# Altium integrated library TI Microcontroller MSP430 16-bit Ultra-Low Power.IntLib: 1463 symbols (part 9 of 130)
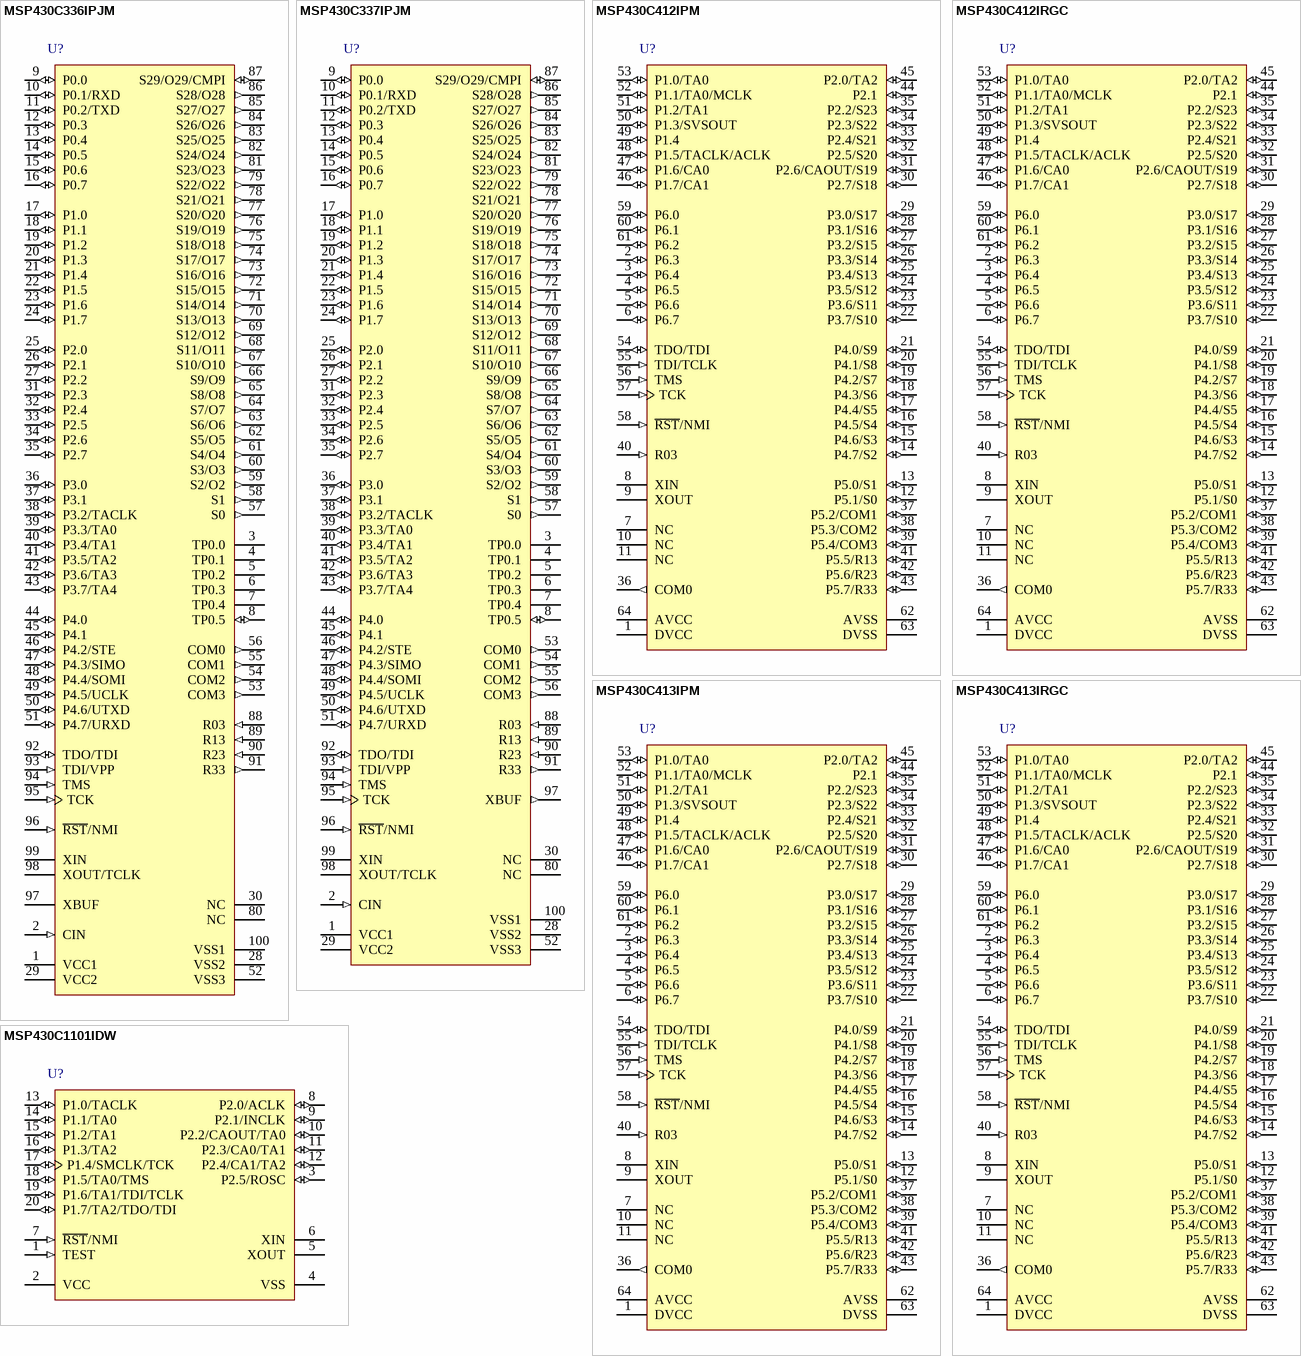
[diagram p241: symbols MSP430C336IPJM to MSP430C1101IDW]

## MSP430C336IPJM
designator U?
3.8 MHz Mixed Signal Microcontroller with 24 KB Flash, 1024 B SRAM, -40 to 85 degC, 100-pin QFP (PJM); Manufacturer: Texas Instruments; PartNumber: MSP430C336IPJM; DatasheetVersion: SLAS227A; PackageVersion: 4040022/B; PackageReference: PJM100; PackageDescription: 100-Pin Plastic Flat Pack, Body 14 x 20 mm, Pitch 0.65 mm; Supplier 1: Mouser; Supplier Part Number 1: N/A; Mounting Technology: Surface Mount; Code_JEDEC: MS-022; ComponentLink1Description: Manufacturer URL; ComponentLink1URL: http://www.ti.com/; ComponentLink2Description: Datasheet; ComponentLink2URL: http://www.ti.com/general/docs/lit/getliterature.tsp?genericPartNumber=MSP430C336&fileType=pdf; ComponentLink3Description: Package Specification; ComponentLink3URL: http://www.ti.com/lit/ds/symlink/msp430c337.pdf
footprint TI-PJM100_N (QFP, 100-Leads, Body 20x14mm, Pitch 0.65mm, IPC Medium Density)
pins: 1 VCC1 (power) "Positive supply voltage", 2 CIN (in) "Input port. CIN is used as an enable for counter TPCNT1 - (Timer/Port).", 3 TP0.0 (hiz) "General-purpose 3-state digital output port, bit 0 - Timer/Port", 4 TP0.1 (hiz) "General-purpose 3-state digital output port, bit 1 - Timer/Port", 5 TP0.2 (hiz) "General-purpose 3-state digital output port, bit 2 - Timer/Port", 6 TP0.3 (hiz) "General-purpose 3-state digital output port, bit 3 - Timer/Port", 7 TP0.4 (hiz) "General-purpose 3-state digital output port, bit 4 - Timer/Port", 8 TP0.5 (io) "General-purpose 3-state digital input/output port, bit 5 - Timer/Port", 9 P0.0 (io) "General-purpose digital I/O", 10 P0.1/RXD (io), 11 P0.2/TXD (io), 12 P0.3 (io) "General-purpose digital I/O, bit 3", 13 P0.4 (io) "General-purpose digital I/O, bit 4", 14 P0.5 (io) "General-purpose digital I/O, bit 5", 15 P0.6 (io) "General-purpose digital I/O, bit 6", 16 P0.7 (io) "General-purpose digital I/O, bit 7", 17 P1.0 (io) "General-purpose digital I/O, bit 0", 18 P1.1 (io) "General-purpose digital I/O, bit 1", 19 P1.2 (io) "General-purpose digital I/O, bit 2", 20 P1.3 (io) "General-purpose digital I/O, bit 3", 21 P1.4 (io) "General-purpose digital I/O, bit 4", 22 P1.5 (io) "General-purpose digital I/O, bit 5", 23 P1.6 (io) "General-purpose digital I/O, bit 6", 24 P1.7 (io) "General-purpose digital I/O, bit 7", 25 P2.0 (io) "General-purpose digital I/O, bit 0", 26 P2.1 (io) "General-purpose digital I/O, bit 1", 27 P2.2 (io) "General-purpose digital I/O, bit 2", 28 VSS2 (power) "Ground reference", 29 VCC2 (power) "Positive supply voltage", 30 NC "No internal connection", 31 P2.3 (io) "General-purpose digital I/O, bit 3", 32 P2.4 (io) "General-purpose digital I/O, bit 4", 33 P2.5 (io) "General-purpose digital I/O, bit 5", 34 P2.6 (io) "General-purpose digital I/O, bit 6", 35 P2.7 (io) "General-purpose digital I/O, bit 7", 36 P3.0 (io) "General-purpose digital I/O, bit 0", 37 P3.1 (io) "General-purpose digital I/O, bit 1", 38 P3.2/TACLK (io), 39 P3.3/TA0 (io), 40 P3.4/TA1 (io), 41 P3.5/TA2 (io), 42 P3.6/TA3 (io), 43 P3.7/TA4 (io), 44 P4.0 (io) "General-purpose digital I/O, bit 0", 45 P4.1 (io) "General-purpose digital I/O, bit 1", 46 P4.2/STE (io), 47 P4.3/SIMO (io), 48 P4.4/SOMI (io), 49 P4.5/UCLK (io), 50 P4.6/UTXD (io), 51 P4.7/URXD (io), 52 VSS3 (power) "Ground reference", 53 COM3 (out) "Common output. COM3 are used for LCD backplanes - LCD", 54 COM2 (out) "Common output. COM2 are used for LCD backplanes - LCD", 55 COM1 (out) "Common output. COM1 are used for LCD backplanes - LCD", 56 COM0 (out) "Common output. COM0 are used for LCD backplanes - LCD", 57 S0 (out) "Segment line S0 - LCD", 58 S1 (out) "Segment line S1 - LCD", 59 S2/O2 (out), 60 S3/O3 (out), 61 S4/O4 (out), 62 S5/O5 (out), 63 S6/O6 (out), 64 S7/O7 (out), 65 S8/O8 (out), 66 S9/O9 (out), 67 S10/O10 (out), 68 S11/O11 (out), 69 S12/O12 (out), 70 S13/O13 (out), 71 S14/O14 (out), 72 S15/O15 (out), 73 S16/O16 (out), 74 S17/O17 (out), 75 S18/O18 (out), 76 S19/O19 (out), 77 S20/O20 (out), 78 S21/O21 (out), 79 S22/O22 (out), 80 NC "No internal connection", 81 S23/O23 (out), 82 S24/O24 (out), 83 S25/O25 (out), 84 S26/O26 (out), 85 S27/O27 (out), 86 S28/O28 (out), 87 S29/O29/CMPI (io), 88 R03 (in) "Input port of fourth positive (lowest) analog LCD level (V5) - LCD", 89 R13 (in) "Input port of third most positive analog LCD level (V3 of V4) - LCD", 90 R23 (in) "Input port of second most positive analog LCD level (V2) - LCD", 91 R33 (out) "Output of most positive analog LCD level (V1) - LCD", 92 TDO/TDI (io), 93 TDI/VPP (in), 94 TMS (in) "Test mode select. TMS is used as an input port for device programming and test.", 95 TCK (in) "Test clock. TCK is the clock input port for device programming and test.", 96 ~{RST}/NMI (in), 97 XBUF "System clock (MCLK) or crystal clock (ACLK) output", 98 XOUT/TCLK, 99 XIN "Input port for crystal oscillator", 100 VSS1 (power) "Ground reference"

## MSP430C337IPJM
designator U?
3.8 MHz Mixed Signal Microcontroller with 32 KB Flash, 1024 B SRAM, -40 to 85 degC, 100-pin QFP (PJM); Manufacturer: Texas Instruments; PartNumber: MSP430C337IPJM; DatasheetVersion: SLAS227A; PackageVersion: 4040022/B; PackageReference: PJM100; PackageDescription: 100-Pin Plastic Flat Pack, Body 14 x 20 mm, Pitch 0.65 mm; Supplier 1: Mouser; Supplier Part Number 1: N/A; Mounting Technology: Surface Mount; Code_JEDEC: MS-022; ComponentLink1Description: Manufacturer URL; ComponentLink1URL: http://www.ti.com/; ComponentLink2Description: Datasheet; ComponentLink2URL: http://www.ti.com/general/docs/lit/getliterature.tsp?genericPartNumber=MSP430C337&fileType=pdf; ComponentLink3Description: Package Specification; ComponentLink3URL: http://www.ti.com/lit/ds/symlink/msp430c337.pdf
footprint TI-PJM100_N (QFP, 100-Leads, Body 20x14mm, Pitch 0.65mm, IPC Medium Density)
pins: 1 VCC1 (power) "Positive supply voltage", 2 CIN (in) "Input port. CIN is used as an enable for counter TPCNT1 - (Timer/Port).", 3 TP0.0 (hiz) "General-purpose 3-state digital output port, bit 0 - Timer/Port", 4 TP0.1 (hiz) "General-purpose 3-state digital output port, bit 1 - Timer/Port", 5 TP0.2 (hiz) "General-purpose 3-state digital output port, bit 2 - Timer/Port", 6 TP0.3 (hiz) "General-purpose 3-state digital output port, bit 3 - Timer/Port", 7 TP0.4 (hiz) "General-purpose 3-state digital output port, bit 4 - Timer/Port", 8 TP0.5 (io) "General-purpose 3-state digital input/output port, bit 5 - Timer/Port", 9 P0.0 (io) "General-purpose digital I/O", 10 P0.1/RXD (io), 11 P0.2/TXD (io), 12 P0.3 (io) "Five general-purpose digital I/Os, bit 3-7", 13 P0.4 (io) "Five general-purpose digital I/Os, bit 3-7", 14 P0.5 (io) "Five general-purpose digital I/Os, bit 3-7", 15 P0.6 (io) "Five general-purpose digital I/Os, bit 3-7", 16 P0.7 (io) "Five general-purpose digital I/Os, bit 3-7", 17 P1.0 (io) "Eight general-purpose digital I/Os, bit 0-7", 18 P1.1 (io) "Eight general-purpose digital I/Os, bit 0-7", 19 P1.2 (io) "Eight general-purpose digital I/Os, bit 0-7", 20 P1.3 (io) "Eight general-purpose digital I/Os, bit 0-7", 21 P1.4 (io) "Eight general-purpose digital I/Os, bit 0-7", 22 P1.5 (io) "Eight general-purpose digital I/Os, bit 0-7", 23 P1.6 (io) "Eight general-purpose digital I/Os, bit 0-7", 24 P1.7 (io) "Eight general-purpose digital I/Os, bit 0-7", 25 P2.0 (io) "Eight general-purpose digital I/Os, bit 0-7", 26 P2.1 (io) "Eight general-purpose digital I/Os, bit 0-7", 27 P2.2 (io) "Eight general-purpose digital I/Os, bit 0-7", 28 VSS2 (power) "Ground reference", 29 VCC2 (power) "Positive supply voltage", 30 NC "No connect", 31 P2.3 (io) "Eight general-purpose digital I/Os, bit 0-7", 32 P2.4 (io) "Eight general-purpose digital I/Os, bit 0-7", 33 P2.5 (io) "Eight general-purpose digital I/Os, bit 0-7", 34 P2.6 (io) "Eight general-purpose digital I/Os, bit 0-7", 35 P2.7 (io) "Eight general-purpose digital I/Os, bit 0-7", 36 P3.0 (io) "Two general-purpose digital I/Os, bit 0 and bit 1", 37 P3.1 (io) "Two general-purpose digital I/Os, bit 0 and bit 1", 38 P3.2/TACLK (io), 39 P3.3/TA0 (io), 40 P3.4/TA1 (io), 41 P3.5/TA2 (io), 42 P3.6/TA3 (io), 43 P3.7/TA4 (io), 44 P4.0 (io) "General-purpose digital I/O, bit 0", 45 P4.1 (io) "General-purpose digital I/O, bit 1", 46 P4.2/STE (io), 47 P4.3/SIMO (io), 48 P4.4/SOMI (io), 49 P4.5/UCLK (io), 50 P4.6/UTXD (io), 51 P4.7/URXD (io), 52 VSS3 (power) "Ground reference", 53 COM0 (out) "Common outputs. COM0-3 are used for LCD backplanes - LCD", 54 COM1 (out) "Common outputs. COM0-3 are used for LCD backplanes - LCD", 55 COM2 (out) "Common outputs. COM0-3 are used for LCD backplanes - LCD", 56 COM3 (out) "Common outputs. COM0-3 are used for LCD backplanes - LCD", 57 S0 (out) "Segment line S0 - LCD", 58 S1 (out) "Segment line S1 - LCD", 59 S2/O2 (out), 60 S3/O3 (out), 61 S4/O4 (out), 62 S5/O5 (out), 63 S6/O6 (out), 64 S7/O7 (out), 65 S8/O8 (out), 66 S9/O9 (out), 67 S10/O10 (out), 68 S11/O11 (out), 69 S12/O12 (out), 70 S13/O13 (out), 71 S14/O14 (out), 72 S15/O15 (out), 73 S16/O16 (out), 74 S17/O17 (out), 75 S18/O18 (out), 76 S19/O19 (out), 77 S20/O20 (out), 78 S21/O21 (out), 79 S22/O22 (out), 80 NC "Not connect", 81 S23/O23 (out), 82 S24/O24 (out), 83 S25/O25 (out), 84 S26/O26 (out), 85 S27/O27 (out), 86 S28/O28 (out), 87 S29/O29/CMPI (io), 88 R03 (in) "Input port of fourth positive (lowest) analog LCD level (V5) - LCD", 89 R13 (in) "Input port of third most positive analog LCD level (V3 of V4) - LCD", 90 R23 (in) "Input port of third most positive analog LCD level (V3 of V4) - LCD", 91 R33 (out) "Output of most positive analog LCD level (V1) - LCD", 92 TDO/TDI (io), 93 TDI/VPP (in), 94 TMS (in) "Test mode select. TMS is used as an input port for device programming and test.", 95 TCK (in) "Test clock. TCK is the clock input port for device programming and test.", 96 ~{RST}/NMI (in), 97 XBUF (out) "System clock (MCLK) or crystal clock (ACLK) output", 98 XOUT/TCLK, 99 XIN "Input port for crystal oscillator", 100 VSS1 (power) "Ground reference"

## MSP430C412IPM
designator U?
8 MHz Mixed Signal Microcontroller with 4 KB Flash, 256 B SRAM and 48 GPIOs, -40 to 85 degC, 64-pin QFP (PM); Manufacturer: Texas Instruments; PartNumber: MSP430C412IPM; ADC: Slope; Frequency(MHz): 8; GPIO: 48; LCD Segments: 96; SRAM(B): 256; SubFamily: 4 Series with LCD; DatasheetVersion: SLAS340J; PackageVersion: 4040152/C; PackageReference: PM64; PackageDescription: 64-Pin Plastic Quad Flat Pack, Body 10 x 10 mm, Pitch 0.5 mm; Supplier 1: Mouser; Supplier Part Number 1: N/A; Mounting Technology: Surface Mount; Code_JEDEC: MS-026; ComponentLink1Description: Manufacturer URL; ComponentLink1URL: http://www.ti.com/; ComponentLink2Description: Datasheet; ComponentLink2URL: http://www.ti.com/general/docs/lit/getliterature.tsp?genericPartNumber=MSP430C412&fileType=pdf; ComponentLink3Description: Package Specification; ComponentLink3URL: http://www.ti.com/lit/ml/mtqf008a/mtqf008a.pdf
footprint TI-PM64_N (QFP, 64-Leads, Body 10x10mm, Pitch 0.5mm, IPC Medium Density)
pins: 1 DVCC (power) "Digital supply voltage, positive terminal. Supplies all parts, except those which are supplied via AVCC.", 2 P6.3 (io) "General-purpose digital I/O", 3 P6.4 (io) "General-purpose digital I/O", 4 P6.5 (io) "General-purpose digital I/O", 5 P6.6 (io) "General-purpose digital I/O", 6 P6.7 (io) "General-purpose digital I/O", 7 NC "Not internally connected. Connection to VSS recommended.", 8 XIN "Input port for crystal oscillator XT1. Standard or watch crystals can be connected.", 9 XOUT "Output terminal of crystal oscillator XT1.", 10 NC "Not internally connected. Connection to VSS recommended.", 11 NC "Not internally connected. Connection to VSS recommended.", 12 P5.1/S0 (io), 13 P5.0/S1 (io), 14 P4.7/S2 (io), 15 P4.6/S3 (io), 16 P4.5/S4 (io), 17 P4.4/S5 (io), 18 P4.3/S6 (io), 19 P4.2/S7 (io), 20 P4.1/S8 (io), 21 P4.0/S9 (io), 22 P3.7/S10 (io), 23 P3.6/S11 (io), 24 P3.5/S12 (io), 25 P3.4/S13 (io), 26 P3.3/S14 (io), 27 P3.2/S15 (io), 28 P3.1/S16 (io), 29 P3.0/S17 (io), 30 P2.7/S18 (io), 31 P2.6/CAOUT/S19 (io), 32 P2.5/S20 (io), 33 P2.4/S21 (io), 34 P2.3/S22 (io), 35 P2.2/S23 (io), 36 COM0 (out) "Common output. COM0-3 are used for LCD backplanes", 37 P5.2/COM1 (io), 38 P5.3/COM2 (io), 39 P5.4/COM3 (io), 40 R03 (in) "Input port of fourth positive (lowest) analog LCD level (V5)", 41 P5.5/R13 (io), 42 P5.6/R23 (io), 43 P5.7/R33 (io), 44 P2.1 (io) "General-purpose digital I/O", 45 P2.0/TA2 (io), 46 P1.7/CA1 (io), 47 P1.6/CA0 (io), 48 P1.5/TACLK/ACLK (io), 49 P1.4 (io) "General-purpose digital I/O", 50 P1.3/SVSOUT (io), 51 P1.2/TA1 (io), 52 P1.1/TA0/MCLK (io), 53 P1.0/TA0 (io), 54 TDO/TDI (io), 55 TDI/TCLK (in), 56 TMS (in) "Test mode select. TMS is used as an input port for device programming and test.", 57 TCK (in) "Test clock. TCK is the clock input port for device programming and test.", 58 ~{RST}/NMI (in), 59 P6.0 (io) "General-purpose digital I/O", 60 P6.1 (io) "General-purpose digital I/O", 61 P6.2 (io) "General-purpose digital I/O", 62 AVSS (power) "Negative terminal that supplies SVS, brownout, oscillator, comparator_A. Needs to be externally connected to DVSS.", 63 DVSS (power) "Digital supply voltage, negative terminal. Supplies all digital parts, except those which are supplied via AVCC/AVSS.", 64 AVCC (power) "Positive terminal that supplies SVS, brownout, oscillator, comparator_A, port 1, and LCD resistive divider circuitry; must not power up prior to DVCC."

## MSP430C412IRGC
designator U?
8 MHz Mixed Signal Microcontroller with 4 KB Flash, 256 B SRAM and 48 GPIOs, -40 to 85 degC, 64-pin QFN (RGC); Manufacturer: Texas Instruments; PartNumber: MSP430C412IRGC; ADC: Slope; Frequency(MHz): 8; GPIO: 48; LCD Segments: 96; SRAM(B): 256; SubFamily: 4 Series with LCD; DatasheetVersion: SLAS340J; PackageVersion: 4204106/F; PackageReference: RGC64; PackageDescription: 64-Pin Plastic Flat Pack, Body 9 x 9 mm, Pitch 0.5 mm; Mounting Technology: Surface Mount; ComponentLink1Description: Manufacturer URL; ComponentLink1URL: http://www.ti.com/; ComponentLink2Description: Datasheet; ComponentLink2URL: http://www.ti.com/general/docs/lit/getliterature.tsp?genericPartNumber=MSP430C412&fileType=pdf; ComponentLink3Description: Package Specification; ComponentLink3URL: http://www.ti.com/lit/ds/symlink/ucd3138.pdf
footprint TI-RGC64-4250X4250TP_N (QFN, 64-Leads, Body 9x9mm, Pitch 0.5mm, Thermal Pad 4.25x4.25mm, IPC Medium Density)
pins: 1 DVCC (power) "Digital supply voltage, positive terminal. Supplies all parts, except those which are supplied via AVCC.", 2 P6.3 (io) "General-purpose digital I/O", 3 P6.4 (io) "General-purpose digital I/O", 4 P6.5 (io) "General-purpose digital I/O", 5 P6.6 (io) "General-purpose digital I/O", 6 P6.7 (io) "General-purpose digital I/O", 7 NC "Not internally connected. Connection to VSS recommended.", 8 XIN "Input port for crystal oscillator XT1. Standard or watch crystals can be connected.", 9 XOUT "Output terminal of crystal oscillator XT1.", 10 NC "Not internally connected. Connection to VSS recommended.", 11 NC "Not internally connected. Connection to VSS recommended.", 12 P5.1/S0 (io), 13 P5.0/S1 (io), 14 P4.7/S2 (io), 15 P4.6/S3 (io), 16 P4.5/S4 (io), 17 P4.4/S5 (io), 18 P4.3/S6 (io), 19 P4.2/S7 (io), 20 P4.1/S8 (io), 21 P4.0/S9 (io), 22 P3.7/S10 (io), 23 P3.6/S11 (io), 24 P3.5/S12 (io), 25 P3.4/S13 (io), 26 P3.3/S14 (io), 27 P3.2/S15 (io), 28 P3.1/S16 (io), 29 P3.0/S17 (io), 30 P2.7/S18 (io), 31 P2.6/CAOUT/S19 (io), 32 P2.5/S20 (io), 33 P2.4/S21 (io), 34 P2.3/S22 (io), 35 P2.2/S23 (io), 36 COM0 (out) "Common output. COM0-3 are used for LCD backplanes", 37 P5.2/COM1 (io), 38 P5.3/COM2 (io), 39 P5.4/COM3 (io), 40 R03 (in) "Input port of fourth positive (lowest) analog LCD level (V5)", 41 P5.5/R13 (io), 42 P5.6/R23 (io), 43 P5.7/R33 (io), 44 P2.1 (io) "General-purpose digital I/O", 45 P2.0/TA2 (io), 46 P1.7/CA1 (io), 47 P1.6/CA0 (io), 48 P1.5/TACLK/ACLK (io), 49 P1.4 (io) "General-purpose digital I/O", 50 P1.3/SVSOUT (io), 51 P1.2/TA1 (io), 52 P1.1/TA0/MCLK (io), 53 P1.0/TA0 (io), 54 TDO/TDI (io), 55 TDI/TCLK (in), 56 TMS (in) "Test mode select. TMS is used as an input port for device programming and test.", 57 TCK (in) "Test clock. TCK is the clock input port for device programming and test.", 58 ~{RST}/NMI (in), 59 P6.0 (io) "General-purpose digital I/O", 60 P6.1 (io) "General-purpose digital I/O", 61 P6.2 (io) "General-purpose digital I/O", 62 AVSS (power) "Negative terminal that supplies SVS, brownout, oscillator, comparator_A. Needs to be externally connected to DVSS.", 63 DVSS (power) "Digital supply voltage, negative terminal. Supplies all digital parts, except those which are supplied via AVCC/AVSS.", 64 AVCC (power) "Positive terminal that supplies SVS, brownout, oscillator, comparator_A, port 1, and LCD resistive divider circuitry; must not power up prior to DVCC."

## MSP430C413IPM
designator U?
8 MHz Mixed Signal Microcontroller with 8 KB Flash, 256 B SRAM and 48 GPIOs, -40 to 85 degC, 64-pin QFP (PM); Manufacturer: Texas Instruments; PartNumber: MSP430C413IPM; ADC: Slope; Frequency(MHz): 8; GPIO: 48; LCD Segments: 96; SubFamily: 4 Series with LCD; DatasheetVersion: SLAS340J; PackageVersion: 4040152/C; PackageReference: PM64; PackageDescription: 64-Pin Plastic Quad Flat Pack, Body 10 x 10 mm, Pitch 0.5 mm; Supplier 1: Mouser; Supplier Part Number 1: N/A; Mounting Technology: Surface Mount; Code_JEDEC: MS-026; ComponentLink1Description: Manufacturer URL; ComponentLink1URL: http://www.ti.com/; ComponentLink2Description: Datasheet; ComponentLink2URL: http://www.ti.com/general/docs/lit/getliterature.tsp?genericPartNumber=MSP430C413&fileType=pdf; ComponentLink3Description: Package Specification; ComponentLink3URL: http://www.ti.com/lit/ml/mtqf008a/mtqf008a.pdf
footprint TI-PM64_N (QFP, 64-Leads, Body 10x10mm, Pitch 0.5mm, IPC Medium Density)
pins: 1 DVCC (power) "Digital supply voltage, positive terminal. Supplies all parts, except those which are supplied via AVCC.", 2 P6.3 (io) "General-purpose digital I/O", 3 P6.4 (io) "General-purpose digital I/O", 4 P6.5 (io) "General-purpose digital I/O", 5 P6.6 (io) "General-purpose digital I/O", 6 P6.7 (io) "General-purpose digital I/O", 7 NC "Not internally connected. Connection to VSS recommended.", 8 XIN "Input port for crystal oscillator XT1. Standard or watch crystals can be connected.", 9 XOUT "Output terminal of crystal oscillator XT1.", 10 NC "Not internally connected. Connection to VSS recommended.", 11 NC "Not internally connected. Connection to VSS recommended.", 12 P5.1/S0 (io), 13 P5.0/S1 (io), 14 P4.7/S2 (io), 15 P4.6/S3 (io), 16 P4.5/S4 (io), 17 P4.4/S5 (io), 18 P4.3/S6 (io), 19 P4.2/S7 (io), 20 P4.1/S8 (io), 21 P4.0/S9 (io), 22 P3.7/S10 (io), 23 P3.6/S11 (io), 24 P3.5/S12 (io), 25 P3.4/S13 (io), 26 P3.3/S14 (io), 27 P3.2/S15 (io), 28 P3.1/S16 (io), 29 P3.0/S17 (io), 30 P2.7/S18 (io), 31 P2.6/CAOUT/S19 (io), 32 P2.5/S20 (io), 33 P2.4/S21 (io), 34 P2.3/S22 (io), 35 P2.2/S23 (io), 36 COM0 (out) "Common output. COM0-3 are used for LCD backplanes", 37 P5.2/COM1 (io), 38 P5.3/COM2 (io), 39 P5.4/COM3 (io), 40 R03 (in) "Input port of fourth positive (lowest) analog LCD level (V5)", 41 P5.5/R13 (io), 42 P5.6/R23 (io), 43 P5.7/R33 (io), 44 P2.1 (io) "General-purpose digital I/O", 45 P2.0/TA2 (io), 46 P1.7/CA1 (io), 47 P1.6/CA0 (io), 48 P1.5/TACLK/ACLK (io), 49 P1.4 (io) "General-purpose digital I/O", 50 P1.3/SVSOUT (io), 51 P1.2/TA1 (io), 52 P1.1/TA0/MCLK (io), 53 P1.0/TA0 (io), 54 TDO/TDI (io), 55 TDI/TCLK (in), 56 TMS (in) "Test mode select. TMS is used as an input port for device programming and test.", 57 TCK (in) "Test clock. TCK is the clock input port for device programming and test.", 58 ~{RST}/NMI (in), 59 P6.0 (io) "General-purpose digital I/O", 60 P6.1 (io) "General-purpose digital I/O", 61 P6.2 (io) "General-purpose digital I/O", 62 AVSS (power) "Negative terminal that supplies SVS, brownout, oscillator, comparator_A. Needs to be externally connected to DVSS.", 63 DVSS (power) "Digital supply voltage, negative terminal. Supplies all digital parts, except those which are supplied via AVCC/AVSS.", 64 AVCC (power) "Positive terminal that supplies SVS, brownout, oscillator, comparator_A, port 1, and LCD resistive divider circuitry; must not power up prior to DVCC."

## MSP430C413IRGC
designator U?
8 MHz Mixed Signal Microcontroller with 8 KB Flash, 256 B SRAM and 48 GPIOs, -40 to 85 degC, 64-pin QFN (RGC); Manufacturer: Texas Instruments; PartNumber: MSP430C413IRGC; ADC: Slope; Frequency(MHz): 8; GPIO: 48; LCD Segments: 96; SubFamily: 4 Series with LCD; DatasheetVersion: SLAS340J; PackageVersion: 4204106/F; PackageReference: RGC64; PackageDescription: 64-Pin Plastic Flat Pack, Body 9 x 9 mm, Pitch 0.5 mm; Mounting Technology: Surface Mount; ComponentLink1Description: Manufacturer URL; ComponentLink1URL: http://www.ti.com/; ComponentLink2Description: Datasheet; ComponentLink2URL: http://www.ti.com/general/docs/lit/getliterature.tsp?genericPartNumber=MSP430C413&fileType=pdf; ComponentLink3Description: Package Specification; ComponentLink3URL: http://www.ti.com/lit/ds/symlink/ucd3138.pdf
footprint TI-RGC64-4250X4250TP_N (QFN, 64-Leads, Body 9x9mm, Pitch 0.5mm, Thermal Pad 4.25x4.25mm, IPC Medium Density)
pins: 1 DVCC (power) "Digital supply voltage, positive terminal. Supplies all parts, except those which are supplied via AVCC.", 2 P6.3 (io) "General-purpose digital I/O", 3 P6.4 (io) "General-purpose digital I/O", 4 P6.5 (io) "General-purpose digital I/O", 5 P6.6 (io) "General-purpose digital I/O", 6 P6.7 (io) "General-purpose digital I/O", 7 NC "Not internally connected. Connection to VSS recommended.", 8 XIN "Input port for crystal oscillator XT1. Standard or watch crystals can be connected.", 9 XOUT "Output terminal of crystal oscillator XT1.", 10 NC "Not internally connected. Connection to VSS recommended.", 11 NC "Not internally connected. Connection to VSS recommended.", 12 P5.1/S0 (io), 13 P5.0/S1 (io), 14 P4.7/S2 (io), 15 P4.6/S3 (io), 16 P4.5/S4 (io), 17 P4.4/S5 (io), 18 P4.3/S6 (io), 19 P4.2/S7 (io), 20 P4.1/S8 (io), 21 P4.0/S9 (io), 22 P3.7/S10 (io), 23 P3.6/S11 (io), 24 P3.5/S12 (io), 25 P3.4/S13 (io), 26 P3.3/S14 (io), 27 P3.2/S15 (io), 28 P3.1/S16 (io), 29 P3.0/S17 (io), 30 P2.7/S18 (io), 31 P2.6/CAOUT/S19 (io), 32 P2.5/S20 (io), 33 P2.4/S21 (io), 34 P2.3/S22 (io), 35 P2.2/S23 (io), 36 COM0 (out) "Common output. COM0-3 are used for LCD backplanes", 37 P5.2/COM1 (io), 38 P5.3/COM2 (io), 39 P5.4/COM3 (io), 40 R03 (in) "Input port of fourth positive (lowest) analog LCD level (V5)", 41 P5.5/R13 (io), 42 P5.6/R23 (io), 43 P5.7/R33 (io), 44 P2.1 (io) "General-purpose digital I/O", 45 P2.0/TA2 (io), 46 P1.7/CA1 (io), 47 P1.6/CA0 (io), 48 P1.5/TACLK/ACLK (io), 49 P1.4 (io) "General-purpose digital I/O", 50 P1.3/SVSOUT (io), 51 P1.2/TA1 (io), 52 P1.1/TA0/MCLK (io), 53 P1.0/TA0 (io), 54 TDO/TDI (io), 55 TDI/TCLK (in), 56 TMS (in) "Test mode select. TMS is used as an input port for device programming and test.", 57 TCK (in) "Test clock. TCK is the clock input port for device programming and test.", 58 ~{RST}/NMI (in), 59 P6.0 (io) "General-purpose digital I/O", 60 P6.1 (io) "General-purpose digital I/O", 61 P6.2 (io) "General-purpose digital I/O", 62 AVSS (power) "Negative terminal that supplies SVS, brownout, oscillator, comparator_A. Needs to be externally connected to DVSS.", 63 DVSS (power) "Digital supply voltage, negative terminal. Supplies all digital parts, except those which are supplied via AVCC/AVSS.", 64 AVCC (power) "Positive terminal that supplies SVS, brownout, oscillator, comparator_A, port 1, and LCD resistive divider circuitry; must not power up prior to DVCC."

## MSP430C1101IDW
designator U?
8 MHz Mixed Signal Microcontroller with 128 B SRAM and 14 GPIOs, -40 to 85 degC, 20-pin SOIC (DW), Green (RoHS & no Sb/Br); Manufacturer: Texas Instruments; PartNumber: MSP430C1101IDW; ADC: Slope; Comparators: Yes; DMA: 3; Frequency(MHz): 8; GPIO: 14; Multiplier: 16x16; SRAM(B): 128; SubFamily: 1 Series; Timers - 16-bit: 1; DatasheetVersion: SLAS241I; PackageVersion: 4040000-4/G; PackageReference: DW20; PackageDescription: 20-Pin Plastic Small Outline, Body 12.8 x 7.5 mm, Pitch 1.27 mm; Real-Time Clock: Yes; Temp Sensor: Yes; USART: 1; Watchdog: Yes; Mounting Technology: Surface Mount; Code_JEDEC: MO-013; ComponentLink1Description: Manufacturer URL; ComponentLink1URL: http://www.ti.com/; ComponentLink2Description: Datasheet; ComponentLink2URL: http://www.ti.com/general/docs/lit/getliterature.tsp?genericPartNumber=MSP430C1101&fileType=pdf; ComponentLink3Description: Package Specification; ComponentLink3URL: http://www.ti.com/lit/ml/mpds173a/mpds173a.pdf
footprint TI-DW20_N (SOIC, 20-Leads, Body 12.8x7.5mm, Pitch 1.27mm, IPC Medium Density)
pins: 1 TEST (in) "Selects test mode for JTAG pins on Port1. The device protection fuse is connected to TEST.", 2 VCC (power) "Supply voltage", 3 P2.5/ROSC (io), 4 VSS (power) "Ground reference", 5 XOUT "Output terminal of crystal oscillator", 6 XIN "Input terminal of crystal oscillator", 7 ~{RST}/NMI (in), 8 P2.0/ACLK (io), 9 P2.1/INCLK (io), 10 P2.2/CAOUT/TA0 (io), 11 P2.3/CA0/TA1 (io), 12 P2.4/CA1/TA2 (io), 13 P1.0/TACLK (io), 14 P1.1/TA0 (io), 15 P1.2/TA1 (io), 16 P1.3/TA2 (io), 17 P1.4/SMCLK/TCK (io), 18 P1.5/TA0/TMS (io), 19 P1.6/TA1/TDI/TCLK (io), 20 P1.7/TA2/TDO/TDI (io)

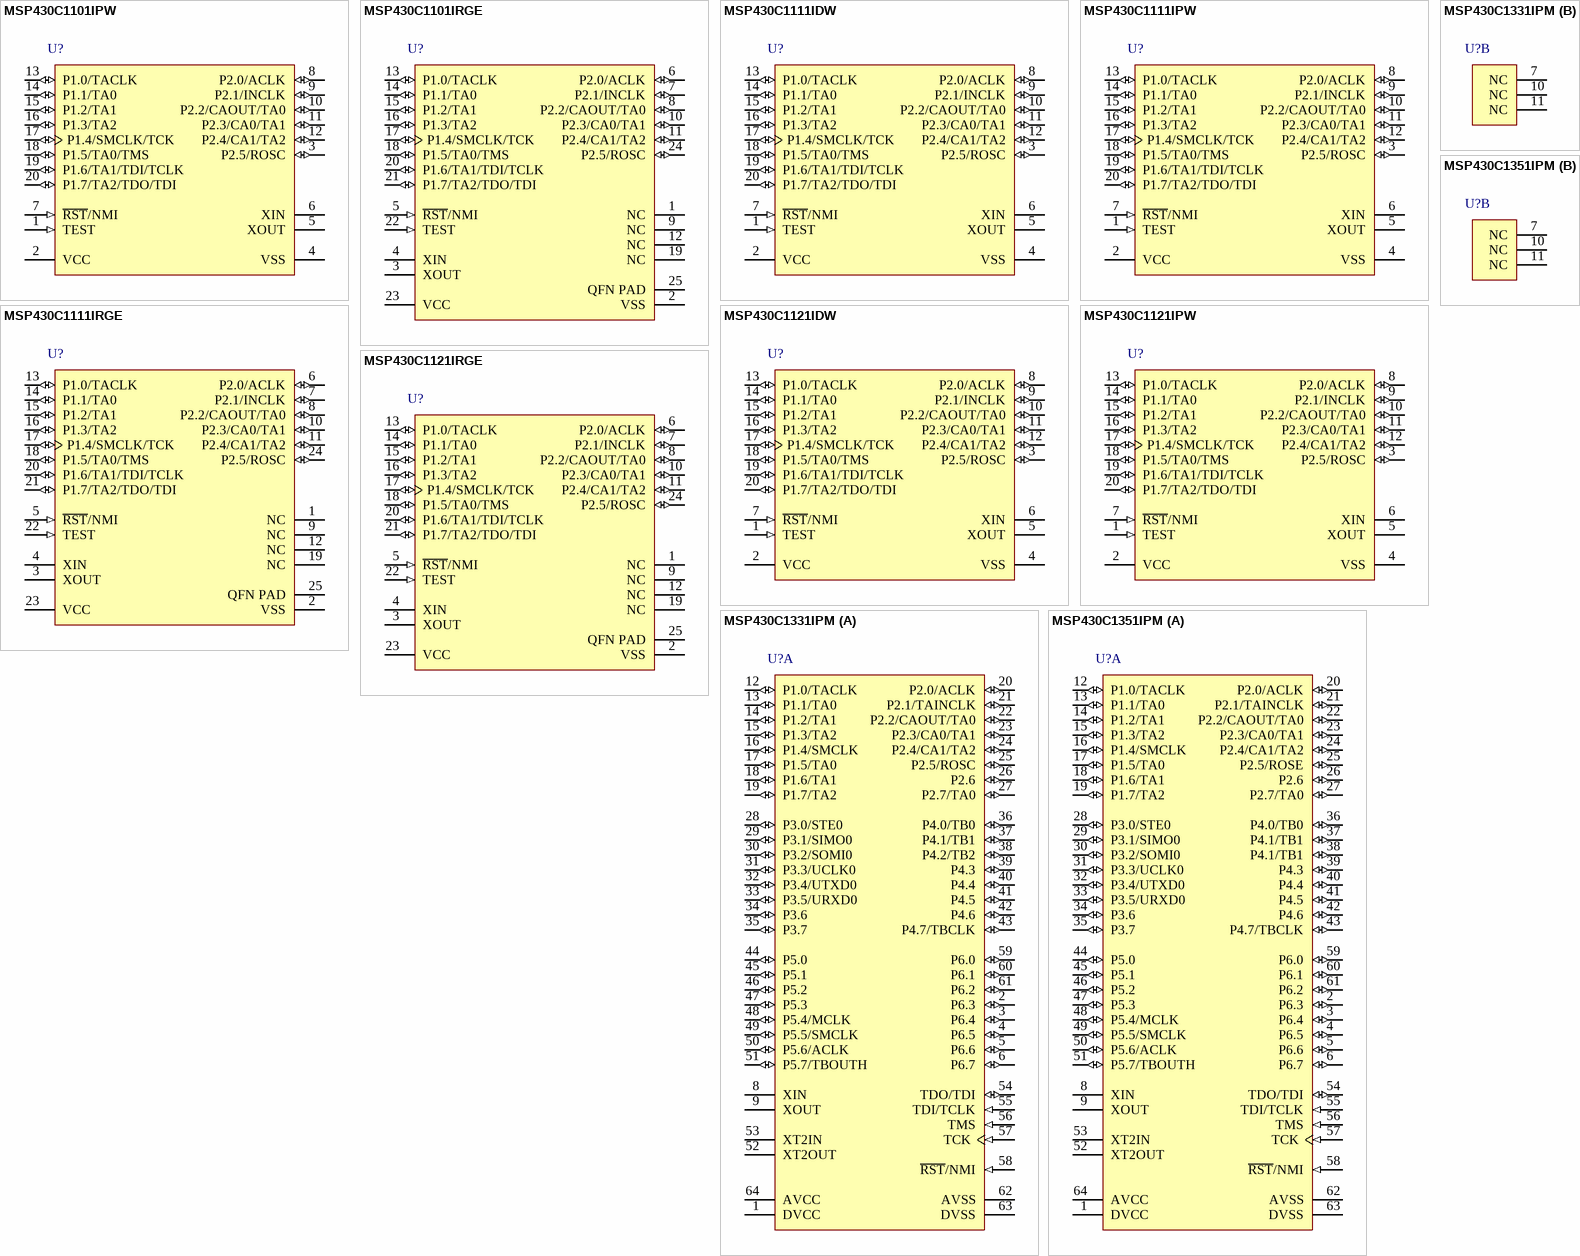
[diagram p16: symbols MSP430C1101IPW to MSP430C1351IPM]

## MSP430C1101IPW
designator U?
8 MHz Mixed Signal Microcontroller with 128 B SRAM and 14 GPIOs, -40 to 85 degC, 20-pin SOP (PW), Green (RoHS & no Sb/Br); Manufacturer: Texas Instruments; PartNumber: MSP430C1101IPW; ADC: Slope; Comparators: Yes; DMA: 3; Frequency(MHz): 8; GPIO: 14; Multiplier: 16x16; SRAM(B): 128; SubFamily: 1 Series; Timers - 16-bit: 1; DatasheetVersion: SLAS241I; PackageVersion: 4040064-5/G; PackageReference: PW20; PackageDescription: 20-Pin Plastic Small Outline, Body 6.5 x 4.4 mm, 0.65 mm Pitch; Real-Time Clock: Yes; Temp Sensor: Yes; USART: 1; Watchdog: Yes; Mounting Technology: Surface Mount; Code_JEDEC: MO-153; ComponentLink1Description: Manufacturer URL; ComponentLink1URL: http://www.ti.com/; ComponentLink2Description: Datasheet; ComponentLink2URL: http://www.ti.com/general/docs/lit/getliterature.tsp?genericPartNumber=MSP430C1101&fileType=pdf; ComponentLink3Description: Package Specification; ComponentLink3URL: http://www.ti.com.cn/cn/lit/ml/mpds362/mpds362.pdf
footprint TI-PW20_N (SOP, 20-Leads, Body 6.5x4.4mm, Pitch 0.65mm, IPC Medium Density)
pins: 1 TEST (in) "Selects test mode for JTAG pins on Port1. The device protection fuse is connected to TEST.", 2 VCC (power) "Supply voltage", 3 P2.5/ROSC (io), 4 VSS (power) "Ground reference", 5 XOUT "Output terminal of crystal oscillator", 6 XIN "Input terminal of crystal oscillator", 7 ~{RST}/NMI (in), 8 P2.0/ACLK (io), 9 P2.1/INCLK (io), 10 P2.2/CAOUT/TA0 (io), 11 P2.3/CA0/TA1 (io), 12 P2.4/CA1/TA2 (io), 13 P1.0/TACLK (io), 14 P1.1/TA0 (io), 15 P1.2/TA1 (io), 16 P1.3/TA2 (io), 17 P1.4/SMCLK/TCK (io), 18 P1.5/TA0/TMS (io), 19 P1.6/TA1/TDI/TCLK (io), 20 P1.7/TA2/TDO/TDI (io)

## MSP430C1101IRGE
designator U?
8 MHz Mixed Signal Microcontroller with 1 KB Flash, 128 B SRAM and 14 GPIOs, -40 to 85 degC, 24-pin QFN (RGE); Manufacturer: Texas Instruments; PartNumber: MSP430C1101IRGE; ADC: Slope; Comparators: Yes; DMA: 3; Frequency(MHz): 8; GPIO: 14; Multiplier: 16x16; SRAM(B): 128; SubFamily: 1 Series; Timers - 16-bit: 1; DatasheetVersion: SLAS241I; PackageVersion: 4204104/G; PackageReference: RGE24-2450X2450TP; PackageDescription: 24-Pin Plastic Flat Pack, Body 4 x 4 mm, 0.5 mm Pitch; Real-Time Clock: Yes; Temp Sensor: Yes; USART: 1; Watchdog: Yes; Mounting Technology: Surface Mount; Code_JEDEC: MO-220; ComponentLink1Description: Manufacturer URL; ComponentLink1URL: http://www.ti.com/; ComponentLink2Description: Datasheet; ComponentLink2URL: http://www.ti.com/general/docs/lit/getliterature.tsp?genericPartNumber=MSP430C1101&fileType=pdf; ComponentLink3Description: Package Specification; ComponentLink3URL: http://www.ti.com/litv/pdf/mpqf124f
footprint TI-RGE24-2450X2450TP_N (QFN, 24-Leads, Body 4x4mm, Pitch 0.5mm, Thermal Pad 2.45x2.45mm, IPC Medium Density)
pins: 1 NC "NC pins not internally connected", 2 VSS (power) "Ground reference", 3 XOUT "Output terminal of crystal oscillator", 4 XIN "Input terminal of crystal oscillator", 5 ~{RST}/NMI (in), 6 P2.0/ACLK (io), 7 P2.1/INCLK (io), 8 P2.2/CAOUT/TA0 (io), 9 NC "NC pins not internally connected", 10 P2.3/CA0/TA1 (io), 11 P2.4/CA1/TA2 (io), 12 NC "NC pins not internally connected", 13 P1.0/TACLK (io), 14 P1.1/TA0 (io), 15 P1.2/TA1 (io), 16 P1.3/TA2 (io), 17 P1.4/SMCLK/TCK (io), 18 P1.5/TA0/TMS (io), 19 NC "NC pins not internally connected", 20 P1.6/TA1/TDI/TCLK (io), 21 P1.7/TA2/TDO/TDI (io), 22 TEST (in) "Selects test mode for JTAG pins on Port1. The device protection fuse is connected to TEST.", 23 VCC (power) "Supply voltage", 24 P2.5/ROSC (io), 25 QFN PAD (power) "QFN package pad connection to VSS recommended."

## MSP430C1111IDW
designator U?
8 MHz Mixed Signal Microcontroller with 2KB Flash, 128 B SRAM and 14 GPIOs, -40 to 85 degC, 20-pin SOIC (DW), Green (RoHS & no Sb/Br); Manufacturer: Texas Instruments; PartNumber: MSP430C1111IDW; ADC: Slope; Frequency(MHz): 8; GPIO: 14; SubFamily: 1 Series; Timers - 16-bit: 1; DatasheetVersion: SLAS241I; PackageVersion: 4040000-4/G; PackageReference: DW20; PackageDescription: 20-Pin Plastic Small Outline, Body 12.8 x 7.5 mm, Pitch 1.27 mm; Mounting Technology: Surface Mount; Code_JEDEC: MO-013; ComponentLink1Description: Manufacturer URL; ComponentLink1URL: http://www.ti.com/; ComponentLink2Description: Datasheet; ComponentLink2URL: http://www.ti.com/general/docs/lit/getliterature.tsp?genericPartNumber=MSP430C1111&fileType=pdf; ComponentLink3Description: Package Specification; ComponentLink3URL: http://www.ti.com/lit/ml/mpds173a/mpds173a.pdf
footprint TI-DW20_N (SOIC, 20-Leads, Body 12.8x7.5mm, Pitch 1.27mm, IPC Medium Density)
pins: 1 TEST (in) "Selects test mode for JTAG pins on Port1. The device protection fuse is connected to TEST.", 2 VCC (power) "Supply voltage", 3 P2.5/ROSC (io), 4 VSS (power) "Ground reference", 5 XOUT "Output terminal of crystal oscillator", 6 XIN "Input terminal of crystal oscillator", 7 ~{RST}/NMI (in), 8 P2.0/ACLK (io), 9 P2.1/INCLK (io), 10 P2.2/CAOUT/TA0 (io), 11 P2.3/CA0/TA1 (io), 12 P2.4/CA1/TA2 (io), 13 P1.0/TACLK (io), 14 P1.1/TA0 (io), 15 P1.2/TA1 (io), 16 P1.3/TA2 (io), 17 P1.4/SMCLK/TCK (io), 18 P1.5/TA0/TMS (io), 19 P1.6/TA1/TDI/TCLK (io), 20 P1.7/TA2/TDO/TDI (io)

## MSP430C1111IPW
designator U?
8 MHz Mixed Signal Microcontroller with 2KB Flash, 128 B SRAM and 14 GPIOs, -40 to 85 degC, 20-pin SOP (PW), Green (RoHS & no Sb/Br); Manufacturer: Texas Instruments; PartNumber: MSP430C1111IPW; ADC: Slope; Frequency(MHz): 8; GPIO: 14; SubFamily: 1 Series; Timers - 16-bit: 1; DatasheetVersion: SLAS241I; PackageVersion: 4040064-5/G; PackageReference: PW20; PackageDescription: 20-Pin Plastic Small Outline, Body 6.5 x 4.4 mm, 0.65 mm Pitch; Mounting Technology: Surface Mount; Code_JEDEC: MO-153; ComponentLink1Description: Manufacturer URL; ComponentLink1URL: http://www.ti.com/; ComponentLink2Description: Datasheet; ComponentLink2URL: http://www.ti.com/general/docs/lit/getliterature.tsp?genericPartNumber=MSP430C1111&fileType=pdf; ComponentLink3Description: Package Specification; ComponentLink3URL: http://www.ti.com.cn/cn/lit/ml/mpds362/mpds362.pdf
footprint TI-PW20_N (SOP, 20-Leads, Body 6.5x4.4mm, Pitch 0.65mm, IPC Medium Density)
pins: 1 TEST (in) "Selects test mode for JTAG pins on Port1. The device protection fuse is connected to TEST.", 2 VCC (power) "Supply voltage", 3 P2.5/ROSC (io), 4 VSS (power) "Ground reference", 5 XOUT "Output terminal of crystal oscillator", 6 XIN "Input terminal of crystal oscillator", 7 ~{RST}/NMI (in), 8 P2.0/ACLK (io), 9 P2.1/INCLK (io), 10 P2.2/CAOUT/TA0 (io), 11 P2.3/CA0/TA1 (io), 12 P2.4/CA1/TA2 (io), 13 P1.0/TACLK (io), 14 P1.1/TA0 (io), 15 P1.2/TA1 (io), 16 P1.3/TA2 (io), 17 P1.4/SMCLK/TCK (io), 18 P1.5/TA0/TMS (io), 19 P1.6/TA1/TDI/TCLK (io), 20 P1.7/TA2/TDO/TDI (io)

## MSP430C1111IRGE
designator U?
8 MHz Mixed Signal Microcontroller with 2KB Flash, 128 B SRAM and 14 GPIOs, -40 to 85 degC, 24-pin QFN (RGE), Green (RoHS & no Sb/Br); Manufacturer: Texas Instruments; PartNumber: MSP430C1111IRGE; ADC: Slope; Frequency(MHz): 8; GPIO: 14; SubFamily: 1 Series; Timers - 16-bit: 1; DatasheetVersion: SLAS241I; PackageVersion: 4204104/G; PackageReference: RGE24-2450X2450TP; PackageDescription: 24-Pin Plastic Flat Pack, Body 4 x 4 mm, 0.5 mm Pitch; Mounting Technology: Surface Mount; Code_JEDEC: MO-220; ComponentLink1Description: Manufacturer URL; ComponentLink1URL: http://www.ti.com/; ComponentLink2Description: Datasheet; ComponentLink2URL: http://www.ti.com/general/docs/lit/getliterature.tsp?genericPartNumber=MSP430C1111&fileType=pdf; ComponentLink3Description: Package Specification; ComponentLink3URL: http://www.ti.com/litv/pdf/mpqf124f
footprint TI-RGE24-2450X2450TP_N (QFN, 24-Leads, Body 4x4mm, Pitch 0.5mm, Thermal Pad 2.45x2.45mm, IPC Medium Density)
pins: 1 NC "NC pins not internally connected", 2 VSS (power) "Ground reference", 3 XOUT "Output terminal of crystal oscillator", 4 XIN "Input terminal of crystal oscillator", 5 ~{RST}/NMI (in), 6 P2.0/ACLK (io), 7 P2.1/INCLK (io), 8 P2.2/CAOUT/TA0 (io), 9 NC "NC pins not internally connected", 10 P2.3/CA0/TA1 (io), 11 P2.4/CA1/TA2 (io), 12 NC "NC pins not internally connected", 13 P1.0/TACLK (io), 14 P1.1/TA0 (io), 15 P1.2/TA1 (io), 16 P1.3/TA2 (io), 17 P1.4/SMCLK/TCK (io), 18 P1.5/TA0/TMS (io), 19 NC "NC pins not internally connected", 20 P1.6/TA1/TDI/TCLK (io), 21 P1.7/TA2/TDO/TDI (io), 22 TEST (in) "Selects test mode for JTAG pins on Port1. The device protection fuse is connected to TEST.", 23 VCC (power) "Supply voltage", 24 P2.5/ROSC (io), 25 QFN PAD (power) "QFN package pad connection to VSS recommended."

## MSP430C1121IDW
designator U?
8 MHz Mixed Signal Microcontroller with 4KB Flash, 256 B SRAM and 14 GPIOs, -40 to 85 degC, 20-pin SOIC (DW), Green (RoHS & no Sb/Br); Manufacturer: Texas Instruments; PartNumber: MSP430C1121IDW; ADC: Slope; Frequency(MHz): 8; GPIO: 14; SubFamily: 1 Series; Timers - 16-bit: 1; DatasheetVersion: SLAS241I; PackageVersion: 4040000-4/G; PackageReference: DW20; PackageDescription: 20-Pin Plastic Small Outline, Body 12.8 x 7.5 mm, Pitch 1.27 mm; Mounting Technology: Surface Mount; Code_JEDEC: MO-013; ComponentLink1Description: Manufacturer URL; ComponentLink1URL: http://www.ti.com/; ComponentLink2Description: Datasheet; ComponentLink2URL: http://www.ti.com/general/docs/lit/getliterature.tsp?genericPartNumber=MSP430C1121&fileType=pdf; ComponentLink3Description: Package Specification; ComponentLink3URL: http://www.ti.com/lit/ml/mpds173a/mpds173a.pdf
footprint TI-DW20_N (SOIC, 20-Leads, Body 12.8x7.5mm, Pitch 1.27mm, IPC Medium Density)
pins: 1 TEST (in) "Selects test mode for JTAG pins on Port1. The device protection fuse is connected to TEST.", 2 VCC (power) "Supply voltage", 3 P2.5/ROSC (io), 4 VSS (power) "Ground reference", 5 XOUT "Output terminal of crystal oscillator", 6 XIN "Input terminal of crystal oscillator", 7 ~{RST}/NMI (in), 8 P2.0/ACLK (io), 9 P2.1/INCLK (io), 10 P2.2/CAOUT/TA0 (io), 11 P2.3/CA0/TA1 (io), 12 P2.4/CA1/TA2 (io), 13 P1.0/TACLK (io), 14 P1.1/TA0 (io), 15 P1.2/TA1 (io), 16 P1.3/TA2 (io), 17 P1.4/SMCLK/TCK (io), 18 P1.5/TA0/TMS (io), 19 P1.6/TA1/TDI/TCLK (io), 20 P1.7/TA2/TDO/TDI (io)

## MSP430C1121IPW
designator U?
8 MHz Mixed Signal Microcontroller with 4KB Flash, 256 B SRAM and 14 GPIOs, -40 to 85 degC, 20-pin SOP (PW), Green (RoHS & no Sb/Br); Manufacturer: Texas Instruments; PartNumber: MSP430C1121IPW; ADC: Slope; Frequency(MHz): 8; GPIO: 14; SubFamily: 1 Series; Timers - 16-bit: 1; DatasheetVersion: SLAS241I; PackageVersion: 4040064-5/G; PackageReference: PW20; PackageDescription: 20-Pin Plastic Small Outline, Body 6.5 x 4.4 mm, 0.65 mm Pitch; Mounting Technology: Surface Mount; Code_JEDEC: MO-153; ComponentLink1Description: Manufacturer URL; ComponentLink1URL: http://www.ti.com/; ComponentLink2Description: Datasheet; ComponentLink2URL: http://www.ti.com/general/docs/lit/getliterature.tsp?genericPartNumber=MSP430C1121&fileType=pdf; ComponentLink3Description: Package Specification; ComponentLink3URL: http://www.ti.com.cn/cn/lit/ml/mpds362/mpds362.pdf
footprint TI-PW20_N (SOP, 20-Leads, Body 6.5x4.4mm, Pitch 0.65mm, IPC Medium Density)
pins: 1 TEST (in) "Selects test mode for JTAG pins on Port1. The device protection fuse is connected to TEST.", 2 VCC (power) "Supply voltage", 3 P2.5/ROSC (io), 4 VSS (power) "Ground reference", 5 XOUT "Output terminal of crystal oscillator", 6 XIN "Input terminal of crystal oscillator", 7 ~{RST}/NMI (in), 8 P2.0/ACLK (io), 9 P2.1/INCLK (io), 10 P2.2/CAOUT/TA0 (io), 11 P2.3/CA0/TA1 (io), 12 P2.4/CA1/TA2 (io), 13 P1.0/TACLK (io), 14 P1.1/TA0 (io), 15 P1.2/TA1 (io), 16 P1.3/TA2 (io), 17 P1.4/SMCLK/TCK (io), 18 P1.5/TA0/TMS (io), 19 P1.6/TA1/TDI/TCLK (io), 20 P1.7/TA2/TDO/TDI (io)

## MSP430C1121IRGE
designator U?
8 MHz Mixed Signal Microcontroller with KB Flash, 256 B SRAM and 14 GPIOs, -40 to 85 degC, 24-pin QFN (RGE), Green (RoHS & no Sb/Br); Manufacturer: Texas Instruments; PartNumber: MSP430C1121IRGE; ADC: Slope; Frequency(MHz): 8; GPIO: 14; SubFamily: 1 Series; Timers - 16-bit: 1; DatasheetVersion: SLAS241I; PackageVersion: 4204104/G; PackageReference: RGE24-2450X2450TP; PackageDescription: 24-Pin Plastic Flat Pack, Body 4 x 4 mm, 0.5 mm Pitch; Mounting Technology: Surface Mount; Code_JEDEC: MO-220; ComponentLink1Description: Manufacturer URL; ComponentLink1URL: http://www.ti.com/; ComponentLink2Description: Datasheet; ComponentLink2URL: http://www.ti.com/general/docs/lit/getliterature.tsp?genericPartNumber=MSP430C1121&fileType=pdf; ComponentLink3Description: Package Specification; ComponentLink3URL: http://www.ti.com/litv/pdf/mpqf124f
footprint TI-RGE24-2450X2450TP_N (QFN, 24-Leads, Body 4x4mm, Pitch 0.5mm, Thermal Pad 2.45x2.45mm, IPC Medium Density)
pins: 1 NC "NC pins not internally connected", 2 VSS (power) "Ground reference", 3 XOUT "Output terminal of crystal oscillator", 4 XIN "Input terminal of crystal oscillator", 5 ~{RST}/NMI (in), 6 P2.0/ACLK (io), 7 P2.1/INCLK (io), 8 P2.2/CAOUT/TA0 (io), 9 NC "NC pins not internally connected", 10 P2.3/CA0/TA1 (io), 11 P2.4/CA1/TA2 (io), 12 NC "NC pins not internally connected", 13 P1.0/TACLK (io), 14 P1.1/TA0 (io), 15 P1.2/TA1 (io), 16 P1.3/TA2 (io), 17 P1.4/SMCLK/TCK (io), 18 P1.5/TA0/TMS (io), 19 NC "NC pins not internally connected", 20 P1.6/TA1/TDI/TCLK (io), 21 P1.7/TA2/TDO/TDI (io), 22 TEST (in) "Selects test mode for JTAG pins on Port1. The device protection fuse is connected to TEST.", 23 VCC (power) "Supply voltage", 24 P2.5/ROSC (io), 25 QFN PAD (power) "QFN package pad connection to VSS recommended."

## MSP430C1331IPM
designator U?
8 MHz Mixed Signal Microcontroller with 8 KB Flash, 256 B SRAM and 48 GPIOs, -40 to 85 degC, 64-pin QFP (PM); Manufacturer: Texas Instruments; PartNumber: MSP430C1331IPM; ADC: Slope; Eco-Plan: TBD; Frequency(MHz): 8; GPIO: 48; SubFamily: 1 Series; Timers - 16-bit: 1; DatasheetVersion: SLAS341C; PackageVersion: 4040152/C; PackageReference: PM64; PackageDescription: 64-Pin Plastic Quad Flat Pack, Body 10 x 10 mm, Pitch 0.5 mm; Supplier 1: Mouser; Supplier Part Number 1: N/A; Mounting Technology: Surface Mount; Code_JEDEC: MS-026; ComponentLink1Description: Manufacturer URL; ComponentLink1URL: http://www.ti.com/; ComponentLink2Description: Datasheet; ComponentLink2URL: http://www.ti.com/general/docs/lit/getliterature.tsp?genericPartNumber=MSP430C1331&fileType=pdf; ComponentLink3Description: Package Specification; ComponentLink3URL: http://www.ti.com/lit/ml/mtqf008a/mtqf008a.pdf
footprint TI-PM64_N (QFP, 64-Leads, Body 10x10mm, Pitch 0.5mm, IPC Medium Density)
part A pins: 1 DVCC (power) "Supply voltage, positive terminal. AVCC and DVCC are internally connected together.", 2 P6.3 (io) "General-purpose digital I/O pin", 3 P6.4 (io) "General-purpose digital I/O pin", 4 P6.5 (io) "General-purpose digital I/O pin", 5 P6.6 (io) "General-purpose digital I/O pin", 6 P6.7 (io) "General-purpose digital I/O pin", 8 XIN "Input port for crystal oscillator XT1. Standard or watch crystals can be connected.", 9 XOUT "Output terminal of crystal oscillator XT1", 12 P1.0/TACLK (io), 13 P1.1/TA0 (io), 14 P1.2/TA1 (io), 15 P1.3/TA2 (io), 16 P1.4/SMCLK (io), 17 P1.5/TA0 (io), 18 P1.6/TA1 (io), 19 P1.7/TA2 (io), 20 P2.0/ACLK (io), 21 P2.1/TAINCLK (io), 22 P2.2/CAOUT/TA0 (io), 23 P2.3/CA0/TA1 (io), 24 P2.4/CA1/TA2 (io), 25 P2.5/ROSC (io), 26 P2.6 (io) "General-purpose digital I/O pin", 27 P2.7/TA0 (io), 28 P3.0/STE0 (io), 29 P3.1/SIMO0 (io), 30 P3.2/SOMI0 (io), 31 P3.3/UCLK0 (io), 32 P3.4/UTXD0 (io), 33 P3.5/URXD0 (io), 34 P3.6 (io) "General-purpose digital I/O pin", 35 P3.7 (io) "General-purpose digital I/O pin", 36 P4.0/TB0 (io), 37 P4.1/TB1 (io), 38 P4.2/TB2 (io), 39 P4.3 (io) "General-purpose digital I/O pin", 40 P4.4 (io) "General-purpose digital I/O pin", 41 P4.5 (io) "General-purpose digital I/O pin", 42 P4.6 (io) "General-purpose digital I/O pin", 43 P4.7/TBCLK (io), 44 P5.0 (io) "General-purpose digital I/O pin", 45 P5.1 (io) "General-purpose digital I/O pin", 46 P5.2 (io) "General-purpose digital I/O pin", 47 P5.3 (io) "General-purpose digital I/O pin", 48 P5.4/MCLK (io), 49 P5.5/SMCLK (io), 50 P5.6/ACLK (io), 51 P5.7/TBOUTH (io), 52 XT2OUT "Output terminal of crystal oscillator XT2", 53 XT2IN "Input port for crystal oscillator XT2. Only standard crystals can be connected.", 54 TDO/TDI (io), 55 TDI/TCLK (in), 56 TMS (in) "Test mode select. TMS is used as an input port for device test.", 57 TCK (in) "Test clock. TCK is the clock input port for device programming test.", 58 ~{RST}/NMI (in), 59 P6.0 (io) "General-purpose digital I/O pin", 60 P6.1 (io) "General-purpose digital I/O pin", 61 P6.2 (io) "General-purpose digital I/O pin", 62 AVSS (power) "Supply voltage, negative terminal. AVSS and DVSS are internally connected together.", 63 DVSS (power) "Supply voltage, negative terminal. AVSS and DVSS are internally connected together.", 64 AVCC (power) "Supply voltage, positive terminal. AVCC and DVCC are internally connected together."
part B pins: 7 NC "No internal connection", 10 NC "No internal connection", 11 NC "No internal connection"

## MSP430C1351IPM
designator U?
8 MHz Mixed Signal Microcontroller with 16 KB Flash, 512 B SRAM and 48 GPIOs, -40 to 85 degC, 64-pin QFP(PM), Green(RoHS & no Sb/Br); Manufacturer: Texas Instruments; PartNumber: MSP430C1351IPM; ADC: Slope; Frequency(MHz): 8; GPIO: 48; SubFamily: 1 Series; Timers - 16-bit: 1; DatasheetVersion: SLAS341C; PackageVersion: 4040152/C; PackageReference: PM64; PackageDescription: 64-Pin Plastic Quad Flat Pack, Body 10 x 10 mm, Pitch 0.5 mm; Supplier 1: Mouser; Supplier Part Number 1: N/A; Mounting Technology: Surface Mount; Code_JEDEC: MS-026; ComponentLink1Description: Manufacturer URL; ComponentLink1URL: http://www.ti.com/; ComponentLink2Description: Datasheet; ComponentLink2URL: http://www.ti.com/general/docs/lit/getliterature.tsp?genericPartNumber=MSP430C1351&fileType=pdf; ComponentLink3Description: Package Specification; ComponentLink3URL: http://www.ti.com/lit/ml/mtqf008a/mtqf008a.pdf
footprint TI-PM64_N (QFP, 64-Leads, Body 10x10mm, Pitch 0.5mm, IPC Medium Density)
part A pins: 1 DVCC (power) "Supply voltage, negative terminal. AVSS and DVSS are internally connected together.", 2 P6.3 (io) "General-purpose digital I/O pin", 3 P6.4 (io) "General-purpose digital I/O pin", 4 P6.5 (io) "General-purpose digital I/O pin", 5 P6.6 (io) "General-purpose digital I/O pin", 6 P6.7 (io) "General-purpose digital I/O pin", 8 XIN "Input port for crystal oscillator XT1. Standard or watch crystals can be connected.", 9 XOUT "Output terminal of crystal oscillator XT1", 12 P1.0/TACLK (io), 13 P1.1/TA0 (io), 14 P1.2/TA1 (io), 15 P1.3/TA2 (io), 16 P1.4/SMCLK (io), 17 P1.5/TA0 (io), 18 P1.6/TA1 (io), 19 P1.7/TA2 (io), 20 P2.0/ACLK (io), 21 P2.1/TAINCLK (io), 22 P2.2/CAOUT/TA0 (io), 23 P2.3/CA0/TA1 (io), 24 P2.4/CA1/TA2 (io), 25 P2.5/ROSE (io), 26 P2.6 (io) "General-purpose digital I/O pin", 27 P2.7/TA0 (io), 28 P3.0/STE0 (io), 29 P3.1/SIMO0 (io), 30 P3.2/SOMI0 (io), 31 P3.3/UCLK0 (io), 32 P3.4/UTXD0 (io), 33 P3.5/URXD0 (io), 34 P3.6 (io) "General-purpose digital I/O pin", 35 P3.7 (io) "General-purpose digital I/O pin", 36 P4.0/TB0 (io), 37 P4.1/TB1 (io), 38 P4.1/TB1 (io), 39 P4.3 (io) "General-purpose digital I/O pin", 40 P4.4 (io) "General-purpose digital I/O pin", 41 P4.5 (io) "General-purpose digital I/O pin", 42 P4.6 (io) "General-purpose digital I/O pin", 43 P4.7/TBCLK (io), 44 P5.0 (io) "General-purpose digital I/O pin", 45 P5.1 (io) "General-purpose digital I/O pin", 46 P5.2 (io) "General-purpose digital I/O pin", 47 P5.3 (io) "General-purpose digital I/O pin", 48 P5.4/MCLK (io), 49 P5.5/SMCLK (io), 50 P5.6/ACLK (io), 51 P5.7/TBOUTH (io), 52 XT2OUT "Output terminal of crystal oscillator XT2", 53 XT2IN "Input port for crystal oscillator XT2. Only standard crystals can be connected.", 54 TDO/TDI (io), 55 TDI/TCLK (in), 56 TMS (in) "Test mode select. TMS is used as an input port for device test.", 57 TCK (in) "Test clock. TCK is the clock input port for device programming test.", 58 ~{RST}/NMI (in), 59 P6.0 (io) "General-purpose digital I/O pin", 60 P6.1 (io) "General-purpose digital I/O pin", 61 P6.2 (io) "General-purpose digital I/O pin", 62 AVSS (power) "Supply voltage, negative terminal. AVSS and DVSS are internally connected together.", 63 DVSS (power) "Supply voltage, negative terminal. AVSS and DVSS are internally connected together.", 64 AVCC (power) "Supply voltage, positive terminal. AVCC and DVCC are internally connected together."
part B pins: 7 NC "No internal connection", 10 NC "No internal connection", 11 NC "No internal connection"

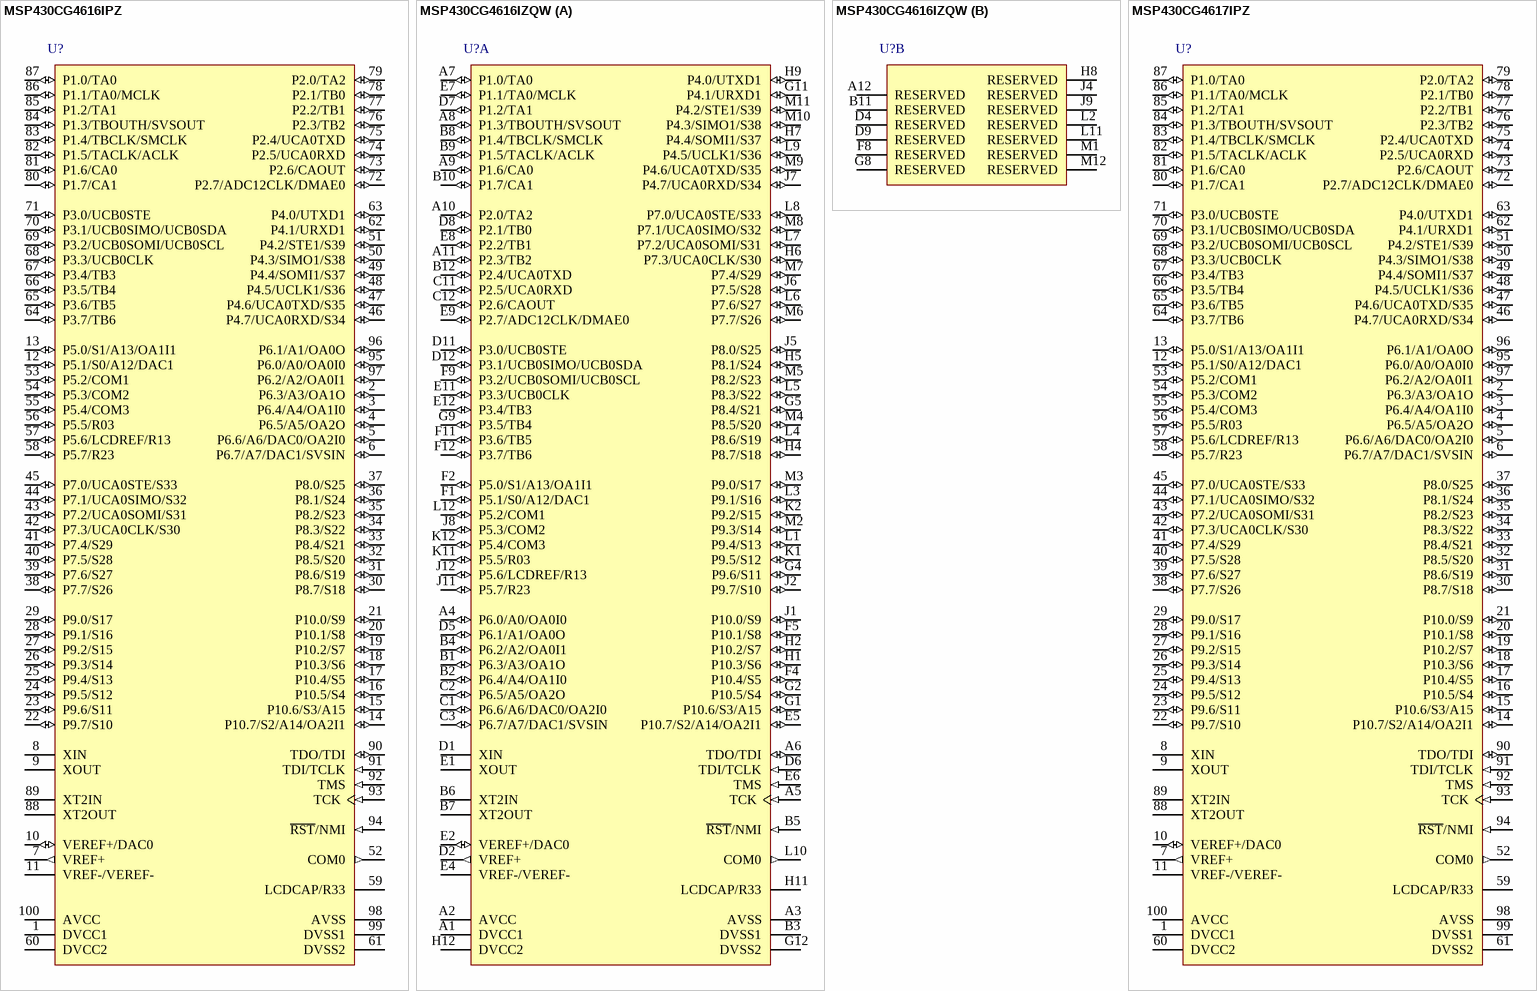
[diagram p17: symbols MSP430CG4616IPZ to MSP430CG4617IPZ]